# EAGLE library part LT4356-*SO (library LT4356_rev10)
Power Supply Protection IC made by Linear Technology at www.linear.com Device Model created 2011-06-25 by Mario Blunk - electronics & IT engineering at www.train-z.de
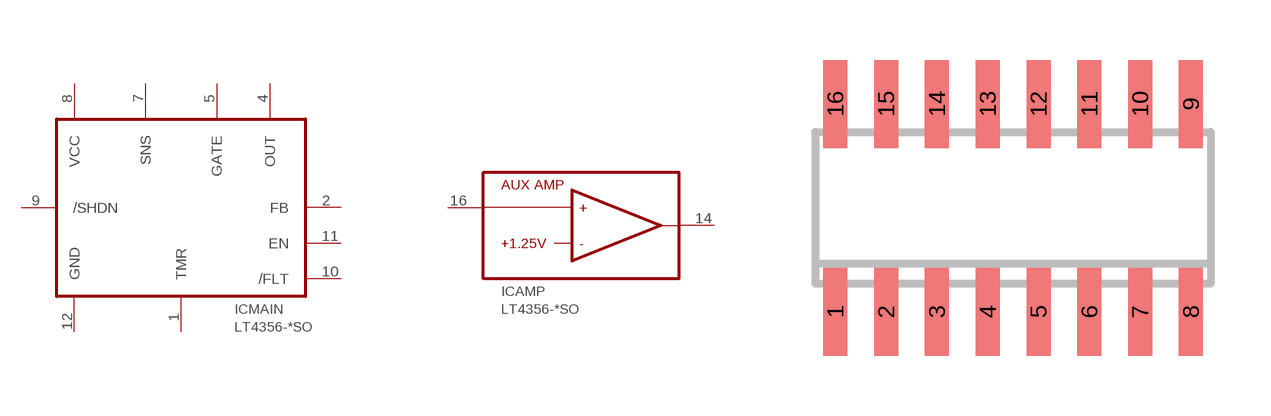
[diagram p2: symbol with the pads of SO16; footprint SO16]

Designator prefix IC; gates MAIN=LT4356_MAIN AMP=LT4356_AMP

## LT4356-1SO (FINISH: LEAD_FREE; INTERNAL_CODE: NCC-1702A; TAPE_REEL: YES; TEMP_RANGE: MIL), LT4356-2SO (FINISH: LEAD_FREE; INTERNAL_CODE: NCC-1702B; TAPE_REEL: YES; TEMP_RANGE: MIL)  [SO16]
1  MAIN:TMR  in
2  MAIN:FB  in
4  MAIN:OUT  in
5  MAIN:GATE  out
7  MAIN:SNS  in
8  MAIN:VCC  pwr
9  MAIN:/SHDN  in
10  MAIN:/FLT  oc
11  MAIN:EN  oc
12  MAIN:GND  pwr
14  AMP:AOUT  oc
16  AMP:IN+  in

## Footprint SO16 (pad centres in mm)
SMALL OUTLINE INTEGRATED CIRCUIT body 3.9 mm/JEDEC MS-012AC
smd 0.6 x 2.2: 1 -4.445,-2.6; 2 -3.175,-2.6; 3 -1.905,-2.6; 4 -0.635,-2.6; 5 0.635,-2.6; 6 1.905,-2.6; 7 3.175,-2.6; 8 4.445,-2.6; 9 4.445,2.6; 10 3.175,2.6; 11 1.905,2.6; 12 0.635,2.6; 13 -0.635,2.6; 14 -1.905,2.6; 15 -3.175,2.6; 16 -4.445,2.6